# Altium footprint library Net tie 1.1mm x 0.5mm.PcbLib: 1 footprints
Each footprint in its own frame and in the unit in brackets; x right, y up, seen from the top. Pads: shape width x height; smd on the part's side, far side on the other; paste and mask are expansions set on the pad; w line width, h text height; cw(c..) or ccw(c..) is an arc to the next point about the centre after c.
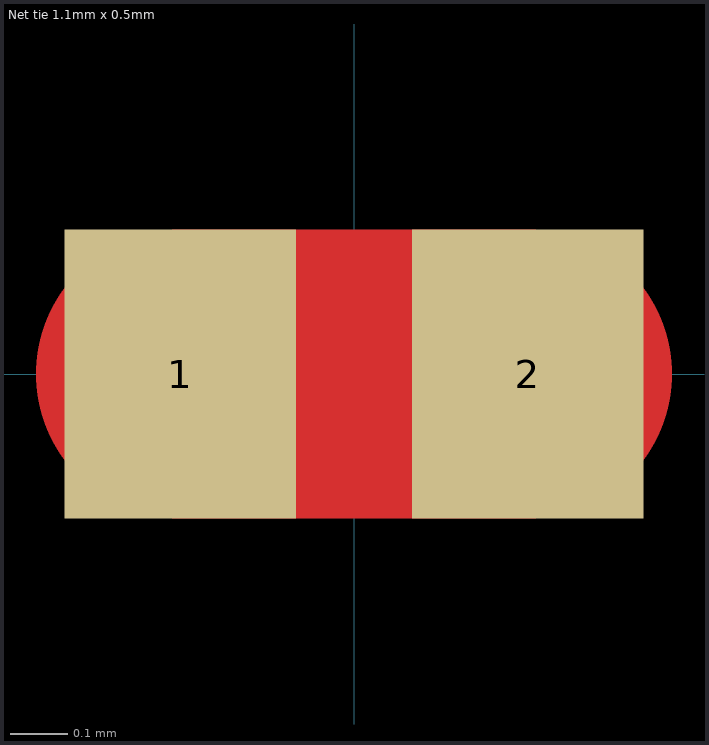
[diagram p0: the footprint, top view; thin cyan lines are the x and y axes]

## Net tie 1.1mm x 0.5mm [mm]
pads (2):
  rect 0.4x0.5 smd paste+0 mask+0: 1(-0.3,0) 2(0.3,0)
Top Layer:
  lines w0.5: -0.3,0 0.3,0